# EAGLE library part 61301421821 (library Wuerth_Elektronik_eiCan_Pin_&_Socked_Headers_v1.3)
WR-PHD 2.54mm Dual Socket Header, 14 Pins
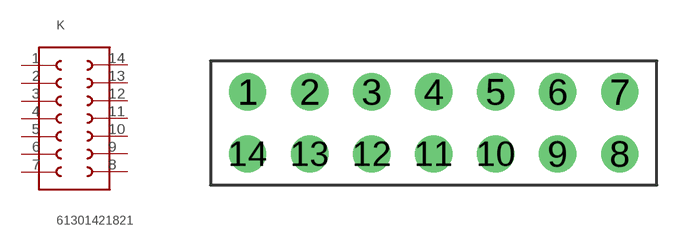
[diagram p131: symbol with the pads of 61301421821; footprint 61301421821]

Designator prefix K

## 61301421821  [61301421821]
1  1  pas
2  2  pas
3  3  pas
4  4  pas
5  5  pas
6  6  pas
7  7  pas
8  8  pas
9  9  pas
10  10  pas
11  11  pas
12  12  pas
13  13  pas
14  14  pas

## Footprint 61301421821 (pad centres in mm)
WR-PHD 2.54mm Dual Socket Header, 14 Pins
drill 1.02 round: 1 -7.62,1.27; 2 -5.08,1.27; 3 -2.54,1.27; 4 0,1.27; 5 2.54,1.27; 6 5.08,1.27; 7 7.62,1.27; 8 7.62,-1.27; 9 5.08,-1.27; 10 2.54,-1.27; 11 0,-1.27; 12 -2.54,-1.27; 13 -5.08,-1.27; 14 -7.62,-1.27